# Altium integrated library Linear Technology Comparators.IntLib: 630 symbols (part 16 of 24)
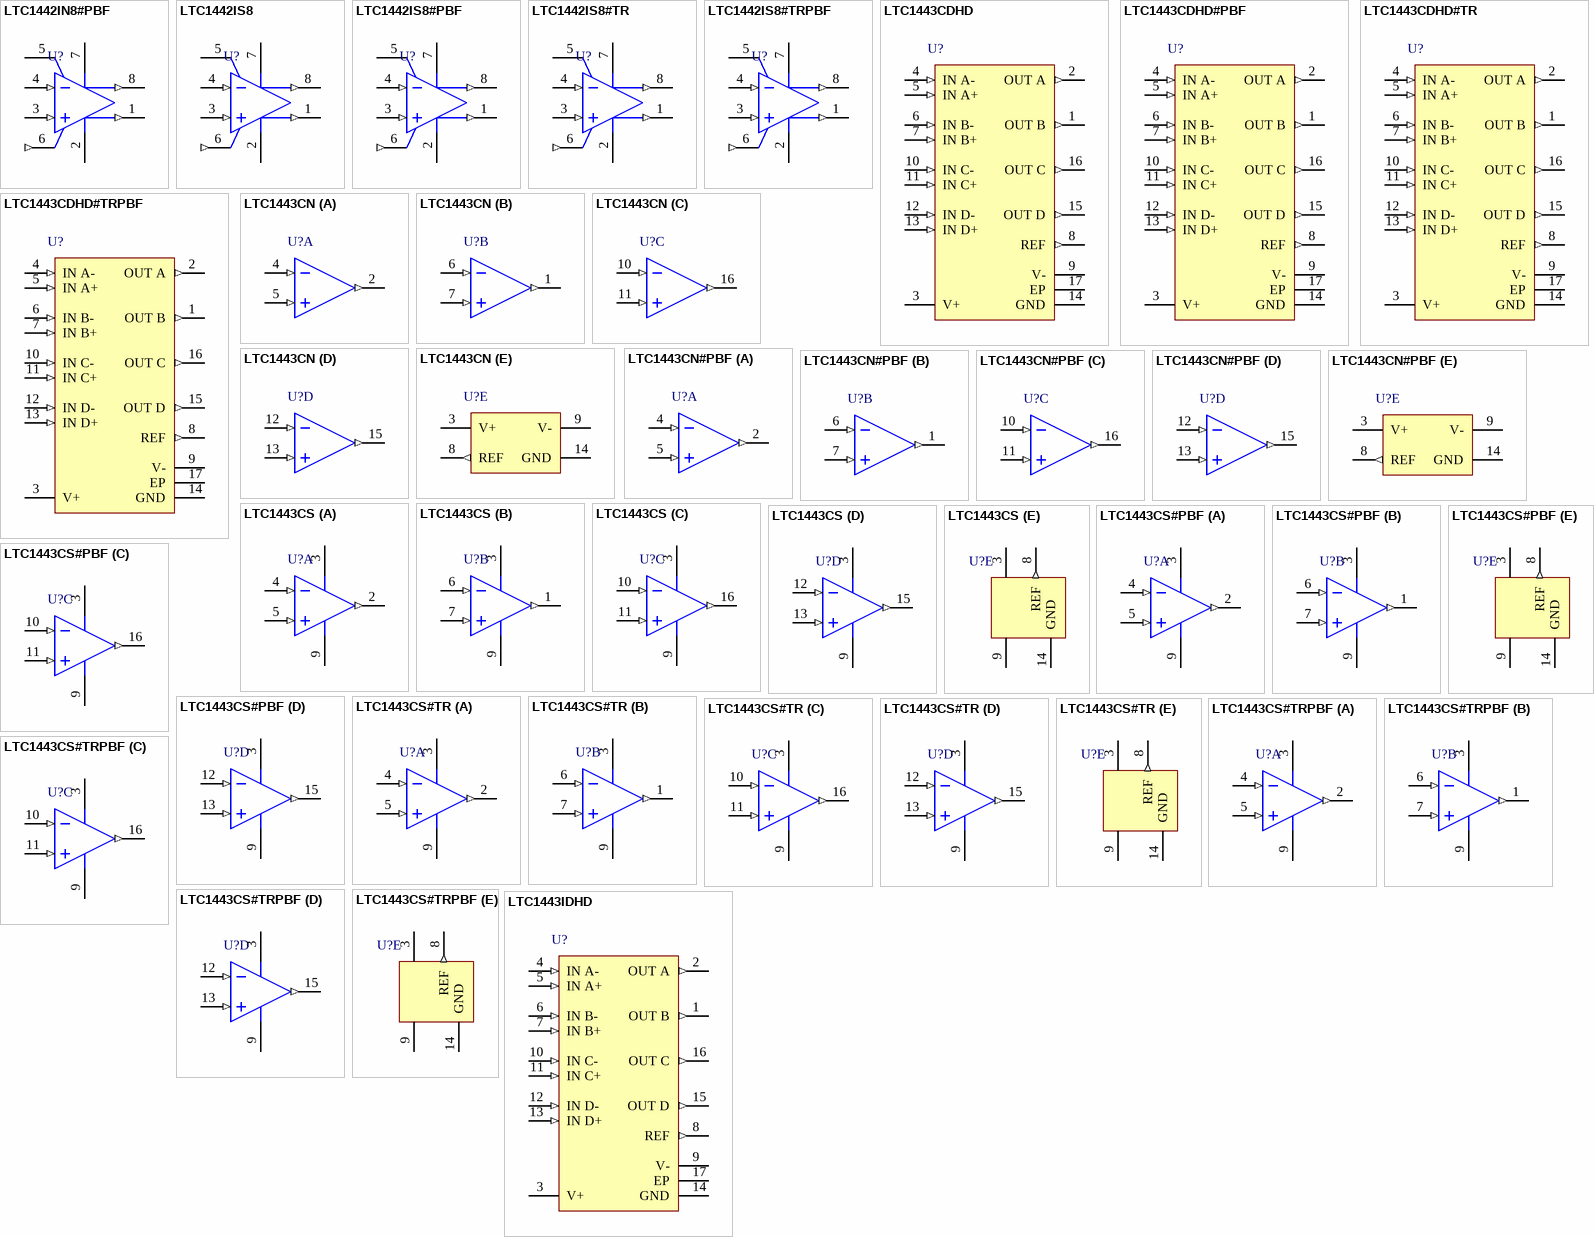
[diagram p39: symbols LTC1442IN8#PBF to LTC1443IDHD]

## LTC1443CS
designator U?
Ultralow Power Comparator with Reference, 4 Channels, 2 to 11 V, 0 to +70 degC, 16-pin SOP (S16); Generic Part Number: LTC1443; Manufacturer: Linear Technology; PartNumber: LTC1443CS; Channels (#): 4; Supply Current (uA) Guaranteed: 8.5; Supply Current (uA) Typical: 5.5; Supply Voltage Range: 2 to 11 V; Vos (mV) Typical: 3; Vs Max (V): 11; Vs Min (V): 2; DatasheetVersion: Rev E; PackageReference: S16; PackageDescription: 16-Pin Plastic Small Outline, Body 9.91 x 3.9 mm, Pitch 1.27 mm; Features: Reference, Comparator; Prop Delay (us): 4; RoHS: N; Mounting Technology: Surface Mount; ComponentLink1Description: Manufacturer URL; ComponentLink1URL: http://www.linear.com/; ComponentLink2Description: Datasheet; ComponentLink2URL: http://cds.linear.com/docs/en/datasheet/144345fe.pdf; ComponentLink3Description: Package Specification; ComponentLink3URL: http://cds.linear.com/docs/en/packaging/05081610_G_S14.pdf
footprint LT-S16_N (SOIC, 16-Leads, Body 9.9x3.9mm, Pitch 1.27mm, IPC Medium Density)
footprint LT-S16_L (SOIC, 16-Leads, Body 9.9x3.9mm, Pitch 1.27mm, IPC High Density)
footprint LT-S16_M (SOIC, 16-Leads, Body 9.9x3.9mm, Pitch 1.27mm, IPC Low Density)
pins on every part: 3 V+ (power) "Positive Supply.", 9 V- (power) "Negative Supply. Connect to ground for single supply operation on LTC1443."
part A pins: 2 OUT A (out) "Comparator A Output.Output can source up to 40mA and sink 5mA.", 4 IN A- (in) "Inverting Input of Comparator A. Input common mode range from V- to V+ -1.3V.Input current typically 10pA at 25degC", 5 IN A+ (in) "Noninverting Input of Comparator A. Input common mode range from V- to V+ -1.3V.Input current typically 1-pA at 25degC"
part B pins: 1 OUT B (out) "Comparator B Output. Output can source up to 40mA and sink 5mA.", 6 IN B- (in) "Inverting Input of Comparator B. Input common mode range from V- to V+ -1.3V.Input cueernt typically 10pA at 25degC", 7 IN B+ (in) "Noninverting Input of Comparator B. Input common mode range from V- to V+ -1.3V.Input current typically 10pA at 25degC"
part C pins: 10 IN C- (in) "Inverting Input of Comparator C. Input common mode range from V- to V+ -1.3V.Input current typically 10pA at25degC.", 11 IN C+ (in) "Noninverting Input of Comparator C. Input common mode range from V- to V+ -1.3V.Input current typically 10pA at 25degC.", 16 OUT C (out) "Comparator C Output.output can source up to 40mA and sink 5mA."
part D pins: 12 IN D- (in) "Inverting Input of Comparator D. Input common mode range from V- toV+ -1.3V.input current typically 10pA at 25degC.", 13 IN D+ (in) "Noninverting Input of Comparator D. Input common mode range from V- to V+ -1.3V.Input current typically 10pA at 25degC.", 15 OUT D (out) "Comparator D Output.Output can source up to 40mA and sink 5mA."
part E pins: 8 REF (out) "Reference Output. With respect to V-. Can source up to 200uA and sink 15uA at 25degC.Drive 0.01uF bypass capacitor without oscillation.", 14 GND (power) "LTC1443 Ground. Connect to V- for single supply operation."

## LTC1443CS#PBF
designator U?
Ultralow Power Comparator with Reference, 4 Channels, 2 to 11 V, 0 to +70 degC, 16-pin SOP (S16); Generic Part Number: LTC1443; Manufacturer: Linear Technology; PartNumber: LTC1443CS#PBF; Channels (#): 4; Supply Current (uA) Guaranteed: 8.5; Supply Current (uA) Typical: 5.5; Supply Voltage Range: 2 to 11 V; Vos (mV) Typical: 3; Vs Max (V): 11; Vs Min (V): 2; DatasheetVersion: Rev E; PackageReference: S16; PackageDescription: 16-Pin Plastic Small Outline, Body 9.91 x 3.9 mm, Pitch 1.27 mm; Supplier 1: Digi-Key; Supplier Part Number 1: LTC1443CS#PBF-ND; Supplier 2: Newark; Supplier Part Number 2: 56M1231; Features: Reference, Comparator; Prop Delay (us): 4; RoHS: Y; Mounting Technology: Surface Mount; ComponentLink1Description: Manufacturer URL; ComponentLink1URL: http://www.linear.com/; ComponentLink2Description: Datasheet; ComponentLink2URL: http://cds.linear.com/docs/en/datasheet/144345fe.pdf; ComponentLink3Description: Package Specification; ComponentLink3URL: http://cds.linear.com/docs/en/packaging/05081610_G_S14.pdf
footprint LT-S16_N (SOIC, 16-Leads, Body 9.9x3.9mm, Pitch 1.27mm, IPC Medium Density)
footprint LT-S16_L (SOIC, 16-Leads, Body 9.9x3.9mm, Pitch 1.27mm, IPC High Density)
footprint LT-S16_M (SOIC, 16-Leads, Body 9.9x3.9mm, Pitch 1.27mm, IPC Low Density)
pins on every part: 3 V+ (power) "Positive Supply.", 9 V- (power) "Negative Supply. Connect to ground for single supply operation on LTC1443."
part A pins: 2 OUT A (out) "Comparator A Output.Output can source up to 40mA and sink 5mA.", 4 IN A- (in) "Inverting Input of Comparator A. Input common mode range from V- to V+ -1.3V.Input current typically 10pA at 25degC", 5 IN A+ (in) "Noninverting Input of Comparator A. Input common mode range from V- to V+ -1.3V.Input current typically 1-pA at 25degC"
part B pins: 1 OUT B (out) "Comparator B Output. Output can source up to 40mA and sink 5mA.", 6 IN B- (in) "Inverting Input of Comparator B. Input common mode range from V- to V+ -1.3V.Input cueernt typically 10pA at 25degC", 7 IN B+ (in) "Noninverting Input of Comparator B. Input common mode range from V- to V+ -1.3V.Input current typically 10pA at 25degC"
part C pins: 10 IN C- (in) "Inverting Input of Comparator C. Input common mode range from V- to V+ -1.3V.Input current typically 10pA at25degC.", 11 IN C+ (in) "Noninverting Input of Comparator C. Input common mode range from V- to V+ -1.3V.Input current typically 10pA at 25degC.", 16 OUT C (out) "Comparator C Output.output can source up to 40mA and sink 5mA."
part D pins: 12 IN D- (in) "Inverting Input of Comparator D. Input common mode range from V- toV+ -1.3V.input current typically 10pA at 25degC.", 13 IN D+ (in) "Noninverting Input of Comparator D. Input common mode range from V- to V+ -1.3V.Input current typically 10pA at 25degC.", 15 OUT D (out) "Comparator D Output.Output can source up to 40mA and sink 5mA."
part E pins: 8 REF (out) "Reference Output. With respect to V-. Can source up to 200uA and sink 15uA at 25degC.Drive 0.01uF bypass capacitor without oscillation.", 14 GND (power) "LTC1443 Ground. Connect to V- for single supply operation."

## LTC1443CS#TR
designator U?
Ultralow Power Comparator with Reference, 4 Channels, 2 to 11 V, 0 to +70 degC, 16-pin SOP (S16), Tape and Reel; Generic Part Number: LTC1443; Manufacturer: Linear Technology; PartNumber: LTC1443CS#TR; Channels (#): 4; Supply Current (uA) Guaranteed: 8.5; Supply Current (uA) Typical: 5.5; Supply Voltage Range: 2 to 11 V; Vos (mV) Typical: 3; Vs Max (V): 11; Vs Min (V): 2; DatasheetVersion: Rev E; PackageReference: S16; PackageDescription: 16-Pin Plastic Small Outline, Body 9.91 x 3.9 mm, Pitch 1.27 mm; Supplier 1: Digi-Key; Supplier Part Number 1: LTC1443CS#TR-ND; Features: Reference, Comparator; Prop Delay (us): 4; RoHS: N; Mounting Technology: Surface Mount; ComponentLink1Description: Manufacturer URL; ComponentLink1URL: http://www.linear.com/; ComponentLink2Description: Datasheet; ComponentLink2URL: http://cds.linear.com/docs/en/datasheet/144345fe.pdf; ComponentLink3Description: Package Specification; ComponentLink3URL: http://cds.linear.com/docs/en/packaging/05081610_G_S14.pdf
footprint LT-S16_N (SOIC, 16-Leads, Body 9.9x3.9mm, Pitch 1.27mm, IPC Medium Density)
footprint LT-S16_L (SOIC, 16-Leads, Body 9.9x3.9mm, Pitch 1.27mm, IPC High Density)
footprint LT-S16_M (SOIC, 16-Leads, Body 9.9x3.9mm, Pitch 1.27mm, IPC Low Density)
pins on every part: 3 V+ (power) "Positive Supply.", 9 V- (power) "Negative Supply. Connect to ground for single supply operation on LTC1443."
part A pins: 2 OUT A (out) "Comparator A Output.Output can source up to 40mA and sink 5mA.", 4 IN A- (in) "Inverting Input of Comparator A. Input common mode range from V- to V+ -1.3V.Input current typically 10pA at 25degC", 5 IN A+ (in) "Noninverting Input of Comparator A. Input common mode range from V- to V+ -1.3V.Input current typically 1-pA at 25degC"
part B pins: 1 OUT B (out) "Comparator B Output. Output can source up to 40mA and sink 5mA.", 6 IN B- (in) "Inverting Input of Comparator B. Input common mode range from V- to V+ -1.3V.Input cueernt typically 10pA at 25degC", 7 IN B+ (in) "Noninverting Input of Comparator B. Input common mode range from V- to V+ -1.3V.Input current typically 10pA at 25degC"
part C pins: 10 IN C- (in) "Inverting Input of Comparator C. Input common mode range from V- to V+ -1.3V.Input current typically 10pA at25degC.", 11 IN C+ (in) "Noninverting Input of Comparator C. Input common mode range from V- to V+ -1.3V.Input current typically 10pA at 25degC.", 16 OUT C (out) "Comparator C Output.output can source up to 40mA and sink 5mA."
part D pins: 12 IN D- (in) "Inverting Input of Comparator D. Input common mode range from V- toV+ -1.3V.input current typically 10pA at 25degC.", 13 IN D+ (in) "Noninverting Input of Comparator D. Input common mode range from V- to V+ -1.3V.Input current typically 10pA at 25degC.", 15 OUT D (out) "Comparator D Output.Output can source up to 40mA and sink 5mA."
part E pins: 8 REF (out) "Reference Output. With respect to V-. Can source up to 200uA and sink 15uA at 25degC.Drive 0.01uF bypass capacitor without oscillation.", 14 GND (power) "LTC1443 Ground. Connect to V- for single supply operation."

## LTC1443CS#TRPBF
designator U?
Ultralow Power Comparator with Reference, 4 Channels, 2 to 11 V, 0 to +70 degC, 16-pin SOP (S16), Tape and Reel; Generic Part Number: LTC1443; Manufacturer: Linear Technology; PartNumber: LTC1443CS#TRPBF; Channels (#): 4; Supply Current (uA) Guaranteed: 8.5; Supply Current (uA) Typical: 5.5; Supply Voltage Range: 2 to 11 V; Vos (mV) Typical: 3; Vs Max (V): 11; Vs Min (V): 2; DatasheetVersion: Rev E; PackageReference: S16; PackageDescription: 16-Pin Plastic Small Outline, Body 9.91 x 3.9 mm, Pitch 1.27 mm; Supplier 1: Digi-Key; Supplier Part Number 1: LTC1443CS#TRPBF-ND; Features: Reference, Comparator; Prop Delay (us): 4; RoHS: Y; Mounting Technology: Surface Mount; ComponentLink1Description: Manufacturer URL; ComponentLink1URL: http://www.linear.com/; ComponentLink2Description: Datasheet; ComponentLink2URL: http://cds.linear.com/docs/en/datasheet/144345fe.pdf; ComponentLink3Description: Package Specification; ComponentLink3URL: http://cds.linear.com/docs/en/packaging/05081610_G_S14.pdf
footprint LT-S16_N (SOIC, 16-Leads, Body 9.9x3.9mm, Pitch 1.27mm, IPC Medium Density)
footprint LT-S16_L (SOIC, 16-Leads, Body 9.9x3.9mm, Pitch 1.27mm, IPC High Density)
footprint LT-S16_M (SOIC, 16-Leads, Body 9.9x3.9mm, Pitch 1.27mm, IPC Low Density)
pins on every part: 3 V+ (power) "Positive Supply.", 9 V- (power) "Negative Supply. Connect to ground for single supply operation on LTC1443."
part A pins: 2 OUT A (out) "Comparator A Output.Output can source up to 40mA and sink 5mA.", 4 IN A- (in) "Inverting Input of Comparator A. Input common mode range from V- to V+ -1.3V.Input current typically 10pA at 25degC", 5 IN A+ (in) "Noninverting Input of Comparator A. Input common mode range from V- to V+ -1.3V.Input current typically 1-pA at 25degC"
part B pins: 1 OUT B (out) "Comparator B Output. Output can source up to 40mA and sink 5mA.", 6 IN B- (in) "Inverting Input of Comparator B. Input common mode range from V- to V+ -1.3V.Input cueernt typically 10pA at 25degC", 7 IN B+ (in) "Noninverting Input of Comparator B. Input common mode range from V- to V+ -1.3V.Input current typically 10pA at 25degC"
part C pins: 10 IN C- (in) "Inverting Input of Comparator C. Input common mode range from V- to V+ -1.3V.Input current typically 10pA at25degC.", 11 IN C+ (in) "Noninverting Input of Comparator C. Input common mode range from V- to V+ -1.3V.Input current typically 10pA at 25degC.", 16 OUT C (out) "Comparator C Output.output can source up to 40mA and sink 5mA."
part D pins: 12 IN D- (in) "Inverting Input of Comparator D. Input common mode range from V- toV+ -1.3V.input current typically 10pA at 25degC.", 13 IN D+ (in) "Noninverting Input of Comparator D. Input common mode range from V- to V+ -1.3V.Input current typically 10pA at 25degC.", 15 OUT D (out) "Comparator D Output.Output can source up to 40mA and sink 5mA."
part E pins: 8 REF (out) "Reference Output. With respect to V-. Can source up to 200uA and sink 15uA at 25degC.Drive 0.01uF bypass capacitor without oscillation.", 14 GND (power) "LTC1443 Ground. Connect to V- for single supply operation."

## LTC1443IDHD
designator U?
Ultralow Power Comparator with Reference, 4 Channels, 2 to 11 V, -40 to +85 degC, 16-pin Plastic DFN (DHD16); Generic Part Number: LTC1443; Manufacturer: Linear Technology; PartNumber: LTC1443IDHD; Channels (#): 4; Supply Current (uA) Guaranteed: 8.5; Supply Current (uA) Typical: 5.5; Supply Voltage Range: 2 to 11 V; Vos (mV) Typical: 3; Vs Max (V): 11; Vs Min (V): 2; DatasheetVersion: Rev E; PackageReference: DHD16; PackageDescription: 16-Pin Plastic DFN, Body 5 × 4 mm, Pitch 0.5 mm; Features: Reference, Comparator; Prop Delay (us): 4; RoHS: N; Mounting Technology: Surface Mount; Code_JEDEC: MO-229; ComponentLink1Description: Manufacturer URL; ComponentLink1URL: http://www.linear.com/; ComponentLink2Description: Datasheet; ComponentLink2URL: http://cds.linear.com/docs/en/datasheet/144345fe.pdf; ComponentLink3Description: Package Specification; ComponentLink3URL: http://cds.linear.com/docs/en/packaging/DFN_16_05-08-1707.pdf
footprint LT-DHD16_V (SON, 16-Leads, Body 5x4mm, Pitch 0.5mm, Thermal Pad 4.34x2.44mm)
pins: 1 OUT B (out) "Comparator B Output. Output can source up to 40mA and sink 5mA.", 2 OUT A (out) "Comparator A Output. Output can source up to 40mA and sink 5mA.", 3 V+ (power) "Positive Supply.", 4 IN A- (in) "Inverting Input of Comparator A. Input common mode range from V- to V+ - 1.3V. Input current typically 10pA at 25degreesC.", 5 IN A+ (in) "Noninverting Input of Comparator A. Input common mode range from V- to V+ - 1.3V. Input current typically 10pA at 25degreesC.", 6 IN B- (in) "Inverting Input of Comparator B. Input common mode range from V- to V+ - 1.3V. Input current typically 10pA at 25degreesC.", 7 IN B+ (in) "Noninverting Input of Comparator B. Input common mode range from V- to V+ - 1.3V. Input current typically 10pA at 25degreesC.", 8 REF (out) "Reference Output. With respect to V-. Can source up to 200uA and sink 15uA at 25degreesC. Drive 0.01uF bypass capacitor without oscillation.", 9 V- (power) "Negative Supply. Connect to ground for single supply operation.", 10 IN C- (in) "Inverting Input of Comparator C. Input common mode range from V- to V+ - 1.3V. Input current typically 10pA at 25degreesC.", 11 IN C+ (in) "Noninverting Input of Comparator C. Input common mode range from V- to V+ - 1.3V. Input current typically 10pA at 25degreesC.", 12 IN D- (in) "Inverting Input of Comparator D. Input common mode range from V- to V+ - 1.3V. Input current typically 10pA at 25degreesC.", 13 IN D+ (in) "Noninverting Input of Comparator D. Input common mode range from V- to V+ - 1.3V. Input current typically 10pA at 25degreesC.", 14 GND (power) "Ground. Connect to V- for single supply operation.", 15 OUT D (out) "Comparator D Output. Output can source up to 40mA and sink 5mA.", 16 OUT C (out) "Comparator C Output. Output can source up to 40mA and sink 5mA.", 17 EP "This pin is internally connected to V-. Connection is optional, but will improve thermal dissipation."

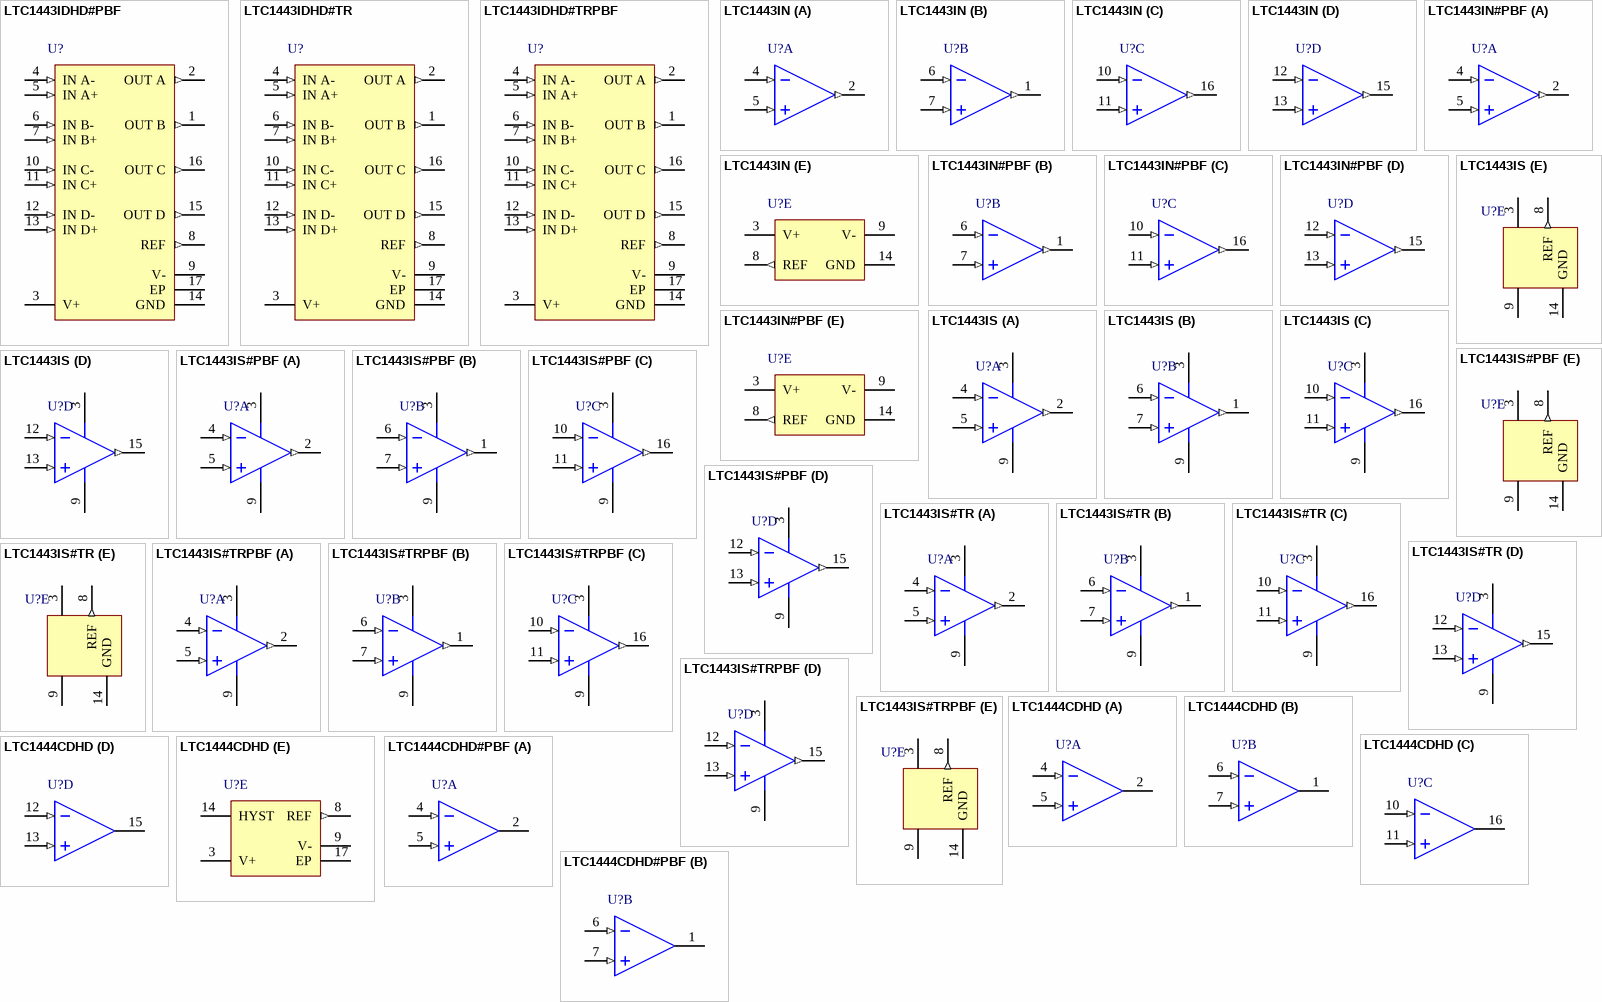
[diagram p15: symbols LTC1443IDHD#PBF to LTC1444CDHD#PBF]

## LTC1443IDHD#PBF
designator U?
Ultralow Power Comparator with Reference, 4 Channels, 2 to 11 V, -40 to +85 degC, 16-pin Plastic DFN (DHD16); Generic Part Number: LTC1443; Manufacturer: Linear Technology; PartNumber: LTC1443IDHD#PBF; Channels (#): 4; Supply Current (uA) Guaranteed: 8.5; Supply Current (uA) Typical: 5.5; Supply Voltage Range: 2 to 11 V; Vos (mV) Typical: 3; Vs Max (V): 11; Vs Min (V): 2; DatasheetVersion: Rev E; PackageReference: DHD16; PackageDescription: 16-Pin Plastic DFN, Body 5 × 4 mm, Pitch 0.5 mm; Supplier 1: Digi-Key; Supplier Part Number 1: LTC1443IDHD#PBF-ND; Features: Reference, Comparator; Prop Delay (us): 4; RoHS: Y; Mounting Technology: Surface Mount; Code_JEDEC: MO-229; ComponentLink1Description: Manufacturer URL; ComponentLink1URL: http://www.linear.com/; ComponentLink2Description: Datasheet; ComponentLink2URL: http://cds.linear.com/docs/en/datasheet/144345fe.pdf; ComponentLink3Description: Package Specification; ComponentLink3URL: http://cds.linear.com/docs/en/packaging/DFN_16_05-08-1707.pdf
footprint LT-DHD16_V (SON, 16-Leads, Body 5x4mm, Pitch 0.5mm, Thermal Pad 4.34x2.44mm)
pins: 1 OUT B (out) "Comparator B Output. Output can source up to 40mA and sink 5mA.", 2 OUT A (out) "Comparator A Output. Output can source up to 40mA and sink 5mA.", 3 V+ (power) "Positive Supply.", 4 IN A- (in) "Inverting Input of Comparator A. Input common mode range from V- to V+ - 1.3V. Input current typically 10pA at 25degreesC.", 5 IN A+ (in) "Noninverting Input of Comparator A. Input common mode range from V- to V+ - 1.3V. Input current typically 10pA at 25degreesC.", 6 IN B- (in) "Inverting Input of Comparator B. Input common mode range from V- to V+ - 1.3V. Input current typically 10pA at 25degreesC.", 7 IN B+ (in) "Noninverting Input of Comparator B. Input common mode range from V- to V+ - 1.3V. Input current typically 10pA at 25degreesC.", 8 REF (out) "Reference Output. With respect to V-. Can source up to 200uA and sink 15uA at 25degreesC. Drive 0.01uF bypass capacitor without oscillation.", 9 V- (power) "Negative Supply. Connect to ground for single supply operation.", 10 IN C- (in) "Inverting Input of Comparator C. Input common mode range from V- to V+ - 1.3V. Input current typically 10pA at 25degreesC.", 11 IN C+ (in) "Noninverting Input of Comparator C. Input common mode range from V- to V+ - 1.3V. Input current typically 10pA at 25degreesC.", 12 IN D- (in) "Inverting Input of Comparator D. Input common mode range from V- to V+ - 1.3V. Input current typically 10pA at 25degreesC.", 13 IN D+ (in) "Noninverting Input of Comparator D. Input common mode range from V- to V+ - 1.3V. Input current typically 10pA at 25degreesC.", 14 GND (power) "Ground. Connect to V- for single supply operation.", 15 OUT D (out) "Comparator D Output. Output can source up to 40mA and sink 5mA.", 16 OUT C (out) "Comparator C Output. Output can source up to 40mA and sink 5mA.", 17 EP "This pin is internally connected to V-. Connection is optional, but will improve thermal dissipation."

## LTC1443IDHD#TR
designator U?
Ultralow Power Comparator with Reference, 4 Channels, 2 to 11 V, -40 to +85 degC, 16-pin Plastic DFN (DHD16), Tape and Reel; Generic Part Number: LTC1443; Manufacturer: Linear Technology; PartNumber: LTC1443IDHD#TR; Channels (#): 4; Supply Current (uA) Guaranteed: 8.5; Supply Current (uA) Typical: 5.5; Supply Voltage Range: 2 to 11 V; Vos (mV) Typical: 3; Vs Max (V): 11; Vs Min (V): 2; DatasheetVersion: Rev E; PackageReference: DHD16; PackageDescription: 16-Pin Plastic DFN, Body 5 × 4 mm, Pitch 0.5 mm; Features: Reference, Comparator; Prop Delay (us): 4; RoHS: N; Mounting Technology: Surface Mount; Code_JEDEC: MO-229; ComponentLink1Description: Manufacturer URL; ComponentLink1URL: http://www.linear.com/; ComponentLink2Description: Datasheet; ComponentLink2URL: http://cds.linear.com/docs/en/datasheet/144345fe.pdf; ComponentLink3Description: Package Specification; ComponentLink3URL: http://cds.linear.com/docs/en/packaging/DFN_16_05-08-1707.pdf
footprint LT-DHD16_V (SON, 16-Leads, Body 5x4mm, Pitch 0.5mm, Thermal Pad 4.34x2.44mm)
pins: 1 OUT B (out) "Comparator B Output. Output can source up to 40mA and sink 5mA.", 2 OUT A (out) "Comparator A Output. Output can source up to 40mA and sink 5mA.", 3 V+ (power) "Positive Supply.", 4 IN A- (in) "Inverting Input of Comparator A. Input common mode range from V- to V+ - 1.3V. Input current typically 10pA at 25degreesC.", 5 IN A+ (in) "Noninverting Input of Comparator A. Input common mode range from V- to V+ - 1.3V. Input current typically 10pA at 25degreesC.", 6 IN B- (in) "Inverting Input of Comparator B. Input common mode range from V- to V+ - 1.3V. Input current typically 10pA at 25degreesC.", 7 IN B+ (in) "Noninverting Input of Comparator B. Input common mode range from V- to V+ - 1.3V. Input current typically 10pA at 25degreesC.", 8 REF (out) "Reference Output. With respect to V-. Can source up to 200uA and sink 15uA at 25degreesC. Drive 0.01uF bypass capacitor without oscillation.", 9 V- (power) "Negative Supply. Connect to ground for single supply operation.", 10 IN C- (in) "Inverting Input of Comparator C. Input common mode range from V- to V+ - 1.3V. Input current typically 10pA at 25degreesC.", 11 IN C+ (in) "Noninverting Input of Comparator C. Input common mode range from V- to V+ - 1.3V. Input current typically 10pA at 25degreesC.", 12 IN D- (in) "Inverting Input of Comparator D. Input common mode range from V- to V+ - 1.3V. Input current typically 10pA at 25degreesC.", 13 IN D+ (in) "Noninverting Input of Comparator D. Input common mode range from V- to V+ - 1.3V. Input current typically 10pA at 25degreesC.", 14 GND (power) "Ground. Connect to V- for single supply operation.", 15 OUT D (out) "Comparator D Output. Output can source up to 40mA and sink 5mA.", 16 OUT C (out) "Comparator C Output. Output can source up to 40mA and sink 5mA.", 17 EP "This pin is internally connected to V-. Connection is optional, but will improve thermal dissipation."

## LTC1443IDHD#TRPBF
designator U?
Ultralow Power Comparator with Reference, 4 Channels, 2 to 11 V, -40 to +85 degC, 16-pin Plastic DFN (DHD16), Tape and Reel; Generic Part Number: LTC1443; Manufacturer: Linear Technology; PartNumber: LTC1443IDHD#TRPBF; Channels (#): 4; Supply Current (uA) Guaranteed: 8.5; Supply Current (uA) Typical: 5.5; Supply Voltage Range: 2 to 11 V; Vos (mV) Typical: 3; Vs Max (V): 11; Vs Min (V): 2; DatasheetVersion: Rev E; PackageReference: DHD16; PackageDescription: 16-Pin Plastic DFN, Body 5 × 4 mm, Pitch 0.5 mm; Supplier 1: Digi-Key; Supplier Part Number 1: LTC1443IDHD#TRPBF-ND; Features: Reference, Comparator; Prop Delay (us): 4; RoHS: Y; Mounting Technology: Surface Mount; Code_JEDEC: MO-229; ComponentLink1Description: Manufacturer URL; ComponentLink1URL: http://www.linear.com/; ComponentLink2Description: Datasheet; ComponentLink2URL: http://cds.linear.com/docs/en/datasheet/144345fe.pdf; ComponentLink3Description: Package Specification; ComponentLink3URL: http://cds.linear.com/docs/en/packaging/DFN_16_05-08-1707.pdf
footprint LT-DHD16_V (SON, 16-Leads, Body 5x4mm, Pitch 0.5mm, Thermal Pad 4.34x2.44mm)
pins: 1 OUT B (out) "Comparator B Output. Output can source up to 40mA and sink 5mA.", 2 OUT A (out) "Comparator A Output. Output can source up to 40mA and sink 5mA.", 3 V+ (power) "Positive Supply.", 4 IN A- (in) "Inverting Input of Comparator A. Input common mode range from V- to V+ - 1.3V. Input current typically 10pA at 25degreesC.", 5 IN A+ (in) "Noninverting Input of Comparator A. Input common mode range from V- to V+ - 1.3V. Input current typically 10pA at 25degreesC.", 6 IN B- (in) "Inverting Input of Comparator B. Input common mode range from V- to V+ - 1.3V. Input current typically 10pA at 25degreesC.", 7 IN B+ (in) "Noninverting Input of Comparator B. Input common mode range from V- to V+ - 1.3V. Input current typically 10pA at 25degreesC.", 8 REF (out) "Reference Output. With respect to V-. Can source up to 200uA and sink 15uA at 25degreesC. Drive 0.01uF bypass capacitor without oscillation.", 9 V- (power) "Negative Supply. Connect to ground for single supply operation.", 10 IN C- (in) "Inverting Input of Comparator C. Input common mode range from V- to V+ - 1.3V. Input current typically 10pA at 25degreesC.", 11 IN C+ (in) "Noninverting Input of Comparator C. Input common mode range from V- to V+ - 1.3V. Input current typically 10pA at 25degreesC.", 12 IN D- (in) "Inverting Input of Comparator D. Input common mode range from V- to V+ - 1.3V. Input current typically 10pA at 25degreesC.", 13 IN D+ (in) "Noninverting Input of Comparator D. Input common mode range from V- to V+ - 1.3V. Input current typically 10pA at 25degreesC.", 14 GND (power) "Ground. Connect to V- for single supply operation.", 15 OUT D (out) "Comparator D Output. Output can source up to 40mA and sink 5mA.", 16 OUT C (out) "Comparator C Output. Output can source up to 40mA and sink 5mA.", 17 EP "This pin is internally connected to V-. Connection is optional, but will improve thermal dissipation."

## LTC1443IN
designator U?
Ultralow Power Comparator with Reference, 4 Channels, 2 to 11 V, -40 to 85 degC, 16-pin PDIP (N16); Generic Part Number: LTC1443; Manufacturer: Linear Technology; PartNumber: LTC1443IN; Channels (#): 4; Supply Current (uA) Guaranteed: 8.5; Supply Current (uA) Typical: 5.5; Supply Voltage Range: 2 to 11 V; Vos (mV) Typical: 3; Vs Max (V): 11; Vs Min (V): 2; DatasheetVersion: Rev E; PackageReference: N16; PackageDescription: 16-Pin PDIP, Body 19.305 x 6.35 mm, Pitch 2.54 mm; Features: Reference, Comparator; Prop Delay (us): 4; RoHS: N; Mounting Technology: Through Hole; ComponentLink1Description: Manufacturer URL; ComponentLink1URL: http://www.linear.com/; ComponentLink2Description: Datasheet; ComponentLink2URL: http://cds.linear.com/docs/en/datasheet/144345fe.pdf; ComponentLink3Description: Package Specification; ComponentLink3URL: http://cds.linear.com/docs/en/packaging/05081510_I_N16.pdf
footprint LT-N16 (DIP, 16-Leads, Body 19.558x6.477mm, Pitch 2.54mm)
part A pins: 2 OUT A (out) "Comparator A Output. Output can source up to 40mA and sink 5mA.", 4 IN A- (in) "Inverting Input of Comparator A. Input common mode range from V- to V+ - 1.3V. Input current typically 10pA at 25degreesC.", 5 IN A+ (in) "Noninverting Input of Comparator A. Input common mode range from V- to V+ - 1.3V. Input current typically 10pA at 25degreesC."
part B pins: 1 OUT B (out) "Comparator B Output. Output can source up to 40mA and sink 5mA.", 6 IN B- (in) "Inverting Input of Comparator B. Input common mode range from V- to V+ - 1.3V. Input current typically 10pA at 25degreesC.", 7 IN B+ (in) "Noninverting Input of Comparator B. Input common mode range from V- to V+ - 1.3V. Input current typically 10pA at 25degreesC."
part C pins: 10 IN C- (in) "Inverting Input of Comparator C. Input common mode range from V- to V+ - 1.3V. Input current typically 10pA at 25degreesC.", 11 IN C+ (in) "Noninverting Input of Comparator C. Input common mode range from V- to V+ - 1.3V. Input current typically 10pA at 25degreesC.", 16 OUT C (out) "Comparator C Output. Output can source up to 40mA and sink 5mA."
part D pins: 12 IN D- (in) "Inverting Input of Comparator D. Input common mode range from V- to V+ - 1.3V. Input current typically 10pA at 25degreesC.", 13 IN D+ (in) "Noninverting Input of Comparator D. Input common mode range from V- to V+ - 1.3V. Input current typically 10pA at 25degreesC.", 15 OUT D (out) "Comparator D Output. Output can source up to 40mA and sink 5mA."
part E pins: 3 V+ (power) "Positive Supply.", 8 REF (out) "Reference Output. With respect to V-. Can source up to 200uA and sink 15uA at 25degreesC. Drive 0.01uF bypass capacitor without oscillation.", 9 V- (power) "Negative Supply. Connect to ground for single supply operation on LTC1443.", 14 GND (power) "LTC1443 Ground. Connect to V- for single supply operation."

## LTC1443IN#PBF
designator U?
Ultralow Power Comparator with Reference, 4 Channels, 2 to 11 V, -40 to +85 degC, 16-pin PDIP (N16); Generic Part Number: LTC1443; Manufacturer: Linear Technology; PartNumber: LTC1443IN#PBF; Channels (#): 4; Supply Current (uA) Guaranteed: 8.5; Supply Current (uA) Typical: 5.5; Supply Voltage Range: 2 to 11 V; Vos (mV) Typical: 3; Vs Max (V): 11; Vs Min (V): 2; DatasheetVersion: Rev E; PackageReference: N16; PackageDescription: 16-Pin PDIP, Body 19.305 x 6.35 mm, Pitch 2.54 mm; Supplier 1: Digi-Key; Supplier Part Number 1: LTC1443IN#PBF-ND; Features: Reference, Comparator; Prop Delay (us): 4; RoHS: Y; Mounting Technology: Through Hole; ComponentLink1Description: Manufacturer URL; ComponentLink1URL: http://www.linear.com/; ComponentLink2Description: Datasheet; ComponentLink2URL: http://cds.linear.com/docs/en/datasheet/144345fe.pdf; ComponentLink3Description: Package Specification; ComponentLink3URL: http://cds.linear.com/docs/en/packaging/05081510_I_N16.pdf
footprint LT-N16 (DIP, 16-Leads, Body 19.558x6.477mm, Pitch 2.54mm)
part A pins: 2 OUT A (out) "Comparator A Output. Output can source up to 40mA and sink 5mA.", 4 IN A- (in) "Inverting Input of Comparator A. Input common mode range from V- to V+ - 1.3V. Input current typically 10pA at 25degreesC.", 5 IN A+ (in) "Noninverting Input of Comparator A. Input common mode range from V- to V+ - 1.3V. Input current typically 10pA at 25degreesC."
part B pins: 1 OUT B (out) "Comparator B Output. Output can source up to 40mA and sink 5mA.", 6 IN B- (in) "Inverting Input of Comparator B. Input common mode range from V- to V+ - 1.3V. Input current typically 10pA at 25degreesC.", 7 IN B+ (in) "Noninverting Input of Comparator B. Input common mode range from V- to V+ - 1.3V. Input current typically 10pA at 25degreesC."
part C pins: 10 IN C- (in) "Inverting Input of Comparator C. Input common mode range from V- to V+ - 1.3V. Input current typically 10pA at 25degreesC.", 11 IN C+ (in) "Noninverting Input of Comparator C. Input common mode range from V- to V+ - 1.3V. Input current typically 10pA at 25degreesC.", 16 OUT C (out) "Comparator C Output. Output can source up to 40mA and sink 5mA."
part D pins: 12 IN D- (in) "Inverting Input of Comparator D. Input common mode range from V- to V+ - 1.3V. Input current typically 10pA at 25degreesC.", 13 IN D+ (in) "Noninverting Input of Comparator D. Input common mode range from V- to V+ - 1.3V. Input current typically 10pA at 25degreesC.", 15 OUT D (out) "Comparator D Output. Output can source up to 40mA and sink 5mA."
part E pins: 3 V+ (power) "Positive Supply.", 8 REF (out) "Reference Output. With respect to V-. Can source up to 200uA and sink 15uA at 25degreesC. Drive 0.01uF bypass capacitor without oscillation.", 9 V- (power) "Negative Supply. Connect to ground for single supply operation on LTC1443.", 14 GND (power) "LTC1443 Ground. Connect to V- for single supply operation."

## LTC1443IS
designator U?
Ultralow Power Comparator with Reference, 4 Channels, 2 to 11 V, -40 to 85 degC, 16-pin SOP (S16); Generic Part Number: LTC1443; Manufacturer: Linear Technology; PartNumber: LTC1443IS; Channels (#): 4; Supply Current (uA) Guaranteed: 8.5; Supply Current (uA) Typical: 5.5; Supply Voltage Range: 2 to 11 V; Vos (mV) Typical: 3; Vs Max (V): 11; Vs Min (V): 2; DatasheetVersion: Rev E; PackageReference: S16; PackageDescription: 16-Pin Plastic Small Outline, Body 9.91 x 3.9 mm, Pitch 1.27 mm; Supplier 1: Digi-Key; Supplier Part Number 1: LTC1443IS-ND; Supplier 2: Newark; Supplier Part Number 2: 56M1237; Features: Reference, Comparator; Prop Delay (us): 4; RoHS: N; Mounting Technology: Surface Mount; ComponentLink1Description: Manufacturer URL; ComponentLink1URL: http://www.linear.com/; ComponentLink2Description: Datasheet; ComponentLink2URL: http://cds.linear.com/docs/en/datasheet/144345fe.pdf; ComponentLink3Description: Package Specification; ComponentLink3URL: http://cds.linear.com/docs/en/packaging/05081610_G_S14.pdf
footprint LT-S16_N (SOIC, 16-Leads, Body 9.9x3.9mm, Pitch 1.27mm, IPC Medium Density)
footprint LT-S16_L (SOIC, 16-Leads, Body 9.9x3.9mm, Pitch 1.27mm, IPC High Density)
footprint LT-S16_M (SOIC, 16-Leads, Body 9.9x3.9mm, Pitch 1.27mm, IPC Low Density)
pins on every part: 3 V+ (power) "Positive Supply.", 9 V- (power) "Negative Supply. Connect to ground for single supply operation on LTC1443."
part A pins: 2 OUT A (out) "Comparator A Output.Output can source up to 40mA and sink 5mA.", 4 IN A- (in) "Inverting Input of Comparator A. Input common mode range from V- to V+ -1.3V.Input current typically 10pA at 25degC", 5 IN A+ (in) "Noninverting Input of Comparator A. Input common mode range from V- to V+ -1.3V.Input current typically 1-pA at 25degC"
part B pins: 1 OUT B (out) "Comparator B Output. Output can source up to 40mA and sink 5mA.", 6 IN B- (in) "Inverting Input of Comparator B. Input common mode range from V- to V+ -1.3V.Input cueernt typically 10pA at 25degC", 7 IN B+ (in) "Noninverting Input of Comparator B. Input common mode range from V- to V+ -1.3V.Input current typically 10pA at 25degC"
part C pins: 10 IN C- (in) "Inverting Input of Comparator C. Input common mode range from V- to V+ -1.3V.Input current typically 10pA at25degC.", 11 IN C+ (in) "Noninverting Input of Comparator C. Input common mode range from V- to V+ -1.3V.Input current typically 10pA at 25degC.", 16 OUT C (out) "Comparator C Output.output can source up to 40mA and sink 5mA."
part D pins: 12 IN D- (in) "Inverting Input of Comparator D. Input common mode range from V- toV+ -1.3V.input current typically 10pA at 25degC.", 13 IN D+ (in) "Noninverting Input of Comparator D. Input common mode range from V- to V+ -1.3V.Input current typically 10pA at 25degC.", 15 OUT D (out) "Comparator D Output.Output can source up to 40mA and sink 5mA."
part E pins: 8 REF (out) "Reference Output. With respect to V-. Can source up to 200uA and sink 15uA at 25degC.Drive 0.01uF bypass capacitor without oscillation.", 14 GND (power) "LTC1443 Ground. Connect to V- for single supply operation."

## LTC1443IS#PBF
designator U?
Ultralow Power Comparator with Reference, 4 Channels, 2 to 11 V, -40 to +85 degC, 16-pin SOP (S16); Generic Part Number: LTC1443; Manufacturer: Linear Technology; PartNumber: LTC1443IS#PBF; Channels (#): 4; Supply Current (uA) Guaranteed: 8.5; Supply Current (uA) Typical: 5.5; Supply Voltage Range: 2 to 11 V; Vos (mV) Typical: 3; Vs Max (V): 11; Vs Min (V): 2; DatasheetVersion: Rev E; PackageReference: S16; PackageDescription: 16-Pin Plastic Small Outline, Body 9.91 x 3.9 mm, Pitch 1.27 mm; Supplier 1: Digi-Key; Supplier Part Number 1: LTC1443IS#PBF-ND; Supplier 2: Farnell; Supplier Part Number 2: 2294788; Supplier 3: Newark; Supplier Part Number 3: 56M1238; Features: Reference, Comparator; Prop Delay (us): 4; RoHS: Y; Mounting Technology: Surface Mount; ComponentLink1Description: Manufacturer URL; ComponentLink1URL: http://www.linear.com/; ComponentLink2Description: Datasheet; ComponentLink2URL: http://cds.linear.com/docs/en/datasheet/144345fe.pdf; ComponentLink3Description: Package Specification; ComponentLink3URL: http://cds.linear.com/docs/en/packaging/05081610_G_S14.pdf
footprint LT-S16_N (SOIC, 16-Leads, Body 9.9x3.9mm, Pitch 1.27mm, IPC Medium Density)
footprint LT-S16_L (SOIC, 16-Leads, Body 9.9x3.9mm, Pitch 1.27mm, IPC High Density)
footprint LT-S16_M (SOIC, 16-Leads, Body 9.9x3.9mm, Pitch 1.27mm, IPC Low Density)
pins on every part: 3 V+ (power) "Positive Supply.", 9 V- (power) "Negative Supply. Connect to ground for single supply operation on LTC1443."
part A pins: 2 OUT A (out) "Comparator A Output.Output can source up to 40mA and sink 5mA.", 4 IN A- (in) "Inverting Input of Comparator A. Input common mode range from V- to V+ -1.3V.Input current typically 10pA at 25degC", 5 IN A+ (in) "Noninverting Input of Comparator A. Input common mode range from V- to V+ -1.3V.Input current typically 1-pA at 25degC"
part B pins: 1 OUT B (out) "Comparator B Output. Output can source up to 40mA and sink 5mA.", 6 IN B- (in) "Inverting Input of Comparator B. Input common mode range from V- to V+ -1.3V.Input cueernt typically 10pA at 25degC", 7 IN B+ (in) "Noninverting Input of Comparator B. Input common mode range from V- to V+ -1.3V.Input current typically 10pA at 25degC"
part C pins: 10 IN C- (in) "Inverting Input of Comparator C. Input common mode range from V- to V+ -1.3V.Input current typically 10pA at25degC.", 11 IN C+ (in) "Noninverting Input of Comparator C. Input common mode range from V- to V+ -1.3V.Input current typically 10pA at 25degC.", 16 OUT C (out) "Comparator C Output.output can source up to 40mA and sink 5mA."
part D pins: 12 IN D- (in) "Inverting Input of Comparator D. Input common mode range from V- toV+ -1.3V.input current typically 10pA at 25degC.", 13 IN D+ (in) "Noninverting Input of Comparator D. Input common mode range from V- to V+ -1.3V.Input current typically 10pA at 25degC.", 15 OUT D (out) "Comparator D Output.Output can source up to 40mA and sink 5mA."
part E pins: 8 REF (out) "Reference Output. With respect to V-. Can source up to 200uA and sink 15uA at 25degC.Drive 0.01uF bypass capacitor without oscillation.", 14 GND (power) "LTC1443 Ground. Connect to V- for single supply operation."

## LTC1443IS#TR
designator U?
Ultralow Power Comparator with Reference, 4 Channels, 2 to 11 V, -40 to +85 degC, 16-pin SOP (S16), Tape and Reel; Generic Part Number: LTC1443; Manufacturer: Linear Technology; PartNumber: LTC1443IS#TR; Channels (#): 4; Supply Current (uA) Guaranteed: 8.5; Supply Current (uA) Typical: 5.5; Supply Voltage Range: 2 to 11 V; Vos (mV) Typical: 3; Vs Max (V): 11; Vs Min (V): 2; DatasheetVersion: Rev E; PackageReference: S16; PackageDescription: 16-Pin Plastic Small Outline, Body 9.91 x 3.9 mm, Pitch 1.27 mm; Supplier 1: Digi-Key; Supplier Part Number 1: LTC1443IS#TR-ND; Features: Reference, Comparator; Prop Delay (us): 4; RoHS: N; Mounting Technology: Surface Mount; ComponentLink1Description: Manufacturer URL; ComponentLink1URL: http://www.linear.com/; ComponentLink2Description: Datasheet; ComponentLink2URL: http://cds.linear.com/docs/en/datasheet/144345fe.pdf; ComponentLink3Description: Package Specification; ComponentLink3URL: http://cds.linear.com/docs/en/packaging/05081610_G_S14.pdf
footprint LT-S16_N (SOIC, 16-Leads, Body 9.9x3.9mm, Pitch 1.27mm, IPC Medium Density)
footprint LT-S16_L (SOIC, 16-Leads, Body 9.9x3.9mm, Pitch 1.27mm, IPC High Density)
footprint LT-S16_M (SOIC, 16-Leads, Body 9.9x3.9mm, Pitch 1.27mm, IPC Low Density)
pins on every part: 3 V+ (power) "Positive Supply.", 9 V- (power) "Negative Supply. Connect to ground for single supply operation on LTC1443."
part A pins: 2 OUT A (out) "Comparator A Output.Output can source up to 40mA and sink 5mA.", 4 IN A- (in) "Inverting Input of Comparator A. Input common mode range from V- to V+ -1.3V.Input current typically 10pA at 25degC", 5 IN A+ (in) "Noninverting Input of Comparator A. Input common mode range from V- to V+ -1.3V.Input current typically 1-pA at 25degC"
part B pins: 1 OUT B (out) "Comparator B Output. Output can source up to 40mA and sink 5mA.", 6 IN B- (in) "Inverting Input of Comparator B. Input common mode range from V- to V+ -1.3V.Input cueernt typically 10pA at 25degC", 7 IN B+ (in) "Noninverting Input of Comparator B. Input common mode range from V- to V+ -1.3V.Input current typically 10pA at 25degC"
part C pins: 10 IN C- (in) "Inverting Input of Comparator C. Input common mode range from V- to V+ -1.3V.Input current typically 10pA at25degC.", 11 IN C+ (in) "Noninverting Input of Comparator C. Input common mode range from V- to V+ -1.3V.Input current typically 10pA at 25degC.", 16 OUT C (out) "Comparator C Output.output can source up to 40mA and sink 5mA."
part D pins: 12 IN D- (in) "Inverting Input of Comparator D. Input common mode range from V- toV+ -1.3V.input current typically 10pA at 25degC.", 13 IN D+ (in) "Noninverting Input of Comparator D. Input common mode range from V- to V+ -1.3V.Input current typically 10pA at 25degC.", 15 OUT D (out) "Comparator D Output.Output can source up to 40mA and sink 5mA."
part E pins: 8 REF (out) "Reference Output. With respect to V-. Can source up to 200uA and sink 15uA at 25degC.Drive 0.01uF bypass capacitor without oscillation.", 14 GND (power) "LTC1443 Ground. Connect to V- for single supply operation."

## LTC1443IS#TRPBF
designator U?
Ultralow Power Comparator with Reference, 4 Channels, 2 to 11 V, -40 to 85 degC, 16-pin SOP (S16), Tape and Reel; Generic Part Number: LTC1443; Manufacturer: Linear Technology; PartNumber: LTC1443IS#TRPBF; Channels (#): 4; Supply Current (uA) Guaranteed: 8.5; Supply Current (uA) Typical: 5.5; Supply Voltage Range: 2 to 11 V; Vos (mV) Typical: 3; Vs Max (V): 11; Vs Min (V): 2; DatasheetVersion: Rev E; PackageReference: S16; PackageDescription: 16-Pin Plastic Small Outline, Body 9.91 x 3.9 mm, Pitch 1.27 mm; Supplier 1: Digi-Key; Supplier Part Number 1: LTC1443IS#TRPBF-ND; Features: Reference, Comparator; Prop Delay (us): 4; RoHS: Y; Mounting Technology: Surface Mount; ComponentLink1Description: Manufacturer URL; ComponentLink1URL: http://www.linear.com/; ComponentLink2Description: Datasheet; ComponentLink2URL: http://cds.linear.com/docs/en/datasheet/144345fe.pdf; ComponentLink3Description: Package Specification; ComponentLink3URL: http://cds.linear.com/docs/en/packaging/05081610_G_S14.pdf
footprint LT-S16_N (SOIC, 16-Leads, Body 9.9x3.9mm, Pitch 1.27mm, IPC Medium Density)
footprint LT-S16_L (SOIC, 16-Leads, Body 9.9x3.9mm, Pitch 1.27mm, IPC High Density)
footprint LT-S16_M (SOIC, 16-Leads, Body 9.9x3.9mm, Pitch 1.27mm, IPC Low Density)
pins on every part: 3 V+ (power) "Positive Supply.", 9 V- (power) "Negative Supply. Connect to ground for single supply operation on LTC1443."
part A pins: 2 OUT A (out) "Comparator A Output.Output can source up to 40mA and sink 5mA.", 4 IN A- (in) "Inverting Input of Comparator A. Input common mode range from V- to V+ -1.3V.Input current typically 10pA at 25degC", 5 IN A+ (in) "Noninverting Input of Comparator A. Input common mode range from V- to V+ -1.3V.Input current typically 1-pA at 25degC"
part B pins: 1 OUT B (out) "Comparator B Output. Output can source up to 40mA and sink 5mA.", 6 IN B- (in) "Inverting Input of Comparator B. Input common mode range from V- to V+ -1.3V.Input cueernt typically 10pA at 25degC", 7 IN B+ (in) "Noninverting Input of Comparator B. Input common mode range from V- to V+ -1.3V.Input current typically 10pA at 25degC"
part C pins: 10 IN C- (in) "Inverting Input of Comparator C. Input common mode range from V- to V+ -1.3V.Input current typically 10pA at25degC.", 11 IN C+ (in) "Noninverting Input of Comparator C. Input common mode range from V- to V+ -1.3V.Input current typically 10pA at 25degC.", 16 OUT C (out) "Comparator C Output.output can source up to 40mA and sink 5mA."
part D pins: 12 IN D- (in) "Inverting Input of Comparator D. Input common mode range from V- toV+ -1.3V.input current typically 10pA at 25degC.", 13 IN D+ (in) "Noninverting Input of Comparator D. Input common mode range from V- to V+ -1.3V.Input current typically 10pA at 25degC.", 15 OUT D (out) "Comparator D Output.Output can source up to 40mA and sink 5mA."
part E pins: 8 REF (out) "Reference Output. With respect to V-. Can source up to 200uA and sink 15uA at 25degC.Drive 0.01uF bypass capacitor without oscillation.", 14 GND (power) "LTC1443 Ground. Connect to V- for single supply operation."

## LTC1444CDHD
designator U?
Ultralow Power Comparator with Reference, 4 Channels, 2 to 11 V, 0 to +70 degC, 16-pin Plastic DFN (DHD16); Generic Part Number: LTC1444; Manufacturer: Linear Technology; PartNumber: LTC1444CDHD; Channels (#): 4; Supply Current (uA) Guaranteed: 8.5; Supply Current (uA) Typical: 5.5; Supply Voltage Range: 2 to 11 V; Vos (mV) Typical: 3; Vs Max (V): 11; DatasheetVersion: Rev E; PackageReference: DHD16; PackageDescription: 16-Pin Plastic DFN, Body 5 × 4 mm, Pitch 0.5 mm; Features: Reference, Comparator; Prop Delay (us): 4; RoHS: N; Vs Min (V): 11; Mounting Technology: Surface Mount; Code_JEDEC: MO-229; ComponentLink1Description: Manufacturer URL; ComponentLink1URL: http://www.linear.com/; ComponentLink2Description: Datasheet; ComponentLink2URL: http://cds.linear.com/docs/en/datasheet/144345fe.pdf; ComponentLink3Description: Package Specification; ComponentLink3URL: http://cds.linear.com/docs/en/packaging/DFN_16_05-08-1707.pdf
footprint LT-DHD16_V (SON, 16-Leads, Body 5x4mm, Pitch 0.5mm, Thermal Pad 4.34x2.44mm)
part A pins: 2 OUT A (oc) "Comparator A Output. (Open-drain output for LTC1444). Output can source up to 40mA (LTC1443,LTC1445) and sink 5mA.", 4 IN A- (in) "Inverting Input of Comparator A. Input common mode range from V- to V+ - 1.3V. Input current typically 10pA at 25degreesC", 5 IN A+ (in) "Noninverting Input of Comparator A. Input common mode range from V- to V+ - 1.3V. Input current typically 10pA at 25degreesC"
part B pins: 1 OUT B (oc) "Comparator B Output. (Open-drain output for LTC1444). Output can source up to 40mA (LTC1443,LTC1445) and sink 5mA.", 6 IN B- (in) "Inverting Input of Comparator B. Input common mode range from V- to V+ - 1.3V. Input current typically 10pA at 25degreesC.", 7 IN B+ (in) "Noninverting Input of Comparator B. Input common mode range from V- to V+ - 1.3V. Input current typically 10pA at 25degreesC."
part C pins: 10 IN C- (in) "Inverting Input of Comparator C. Input common mode range from V- to V+ - 1.3V. Input current typically 10pA at 25degreesC.", 11 IN C+ (in) "Noninverting Input of Comparator C. Input common mode range from V- to V+ - 1.3V. Input current typically 10pA at 25degreesC.", 16 OUT C (oc) "Comparator C Output. (Open-drain output for LTC1444). Output can source up to 40mA (LTC1443,LTC1445) and sink 5mA."
part D pins: 12 IN D- (in) "Inverting Input of Comparator D. Input common mode range from V- to V+ - 1.3V. Input current typically 10pA at 25degreesC.", 13 IN D+ (in) "Noninverting Input of Comparator D. Input common mode range from V- to V+ - 1.3V. Input current typically 10pA at 25degreesC.", 15 OUT D (oc) "Comparator D Output. (Open-drain output for LTC1444). Output can source up to 40mA (LTC1443,LTC1445) and sink 5mA."
part E pins: 3 V+ (power) "Positive Supply", 8 REF (out) "Reference Output. With respect to V-. Can source up to 200uA and sink 15uA at 25degreesC. Drive 0.01uF bypass capacitor without oscillation.", 9 V- (power) "Negative Supply.", 14 HYST "Hysteresis Input. Connect to REF if not used. Input voltage range is from VREF to VREF - 50mV.", 17 EP (power) "This pin is internally connected to V-. Connection is optional, but will improve thermal dissipation."

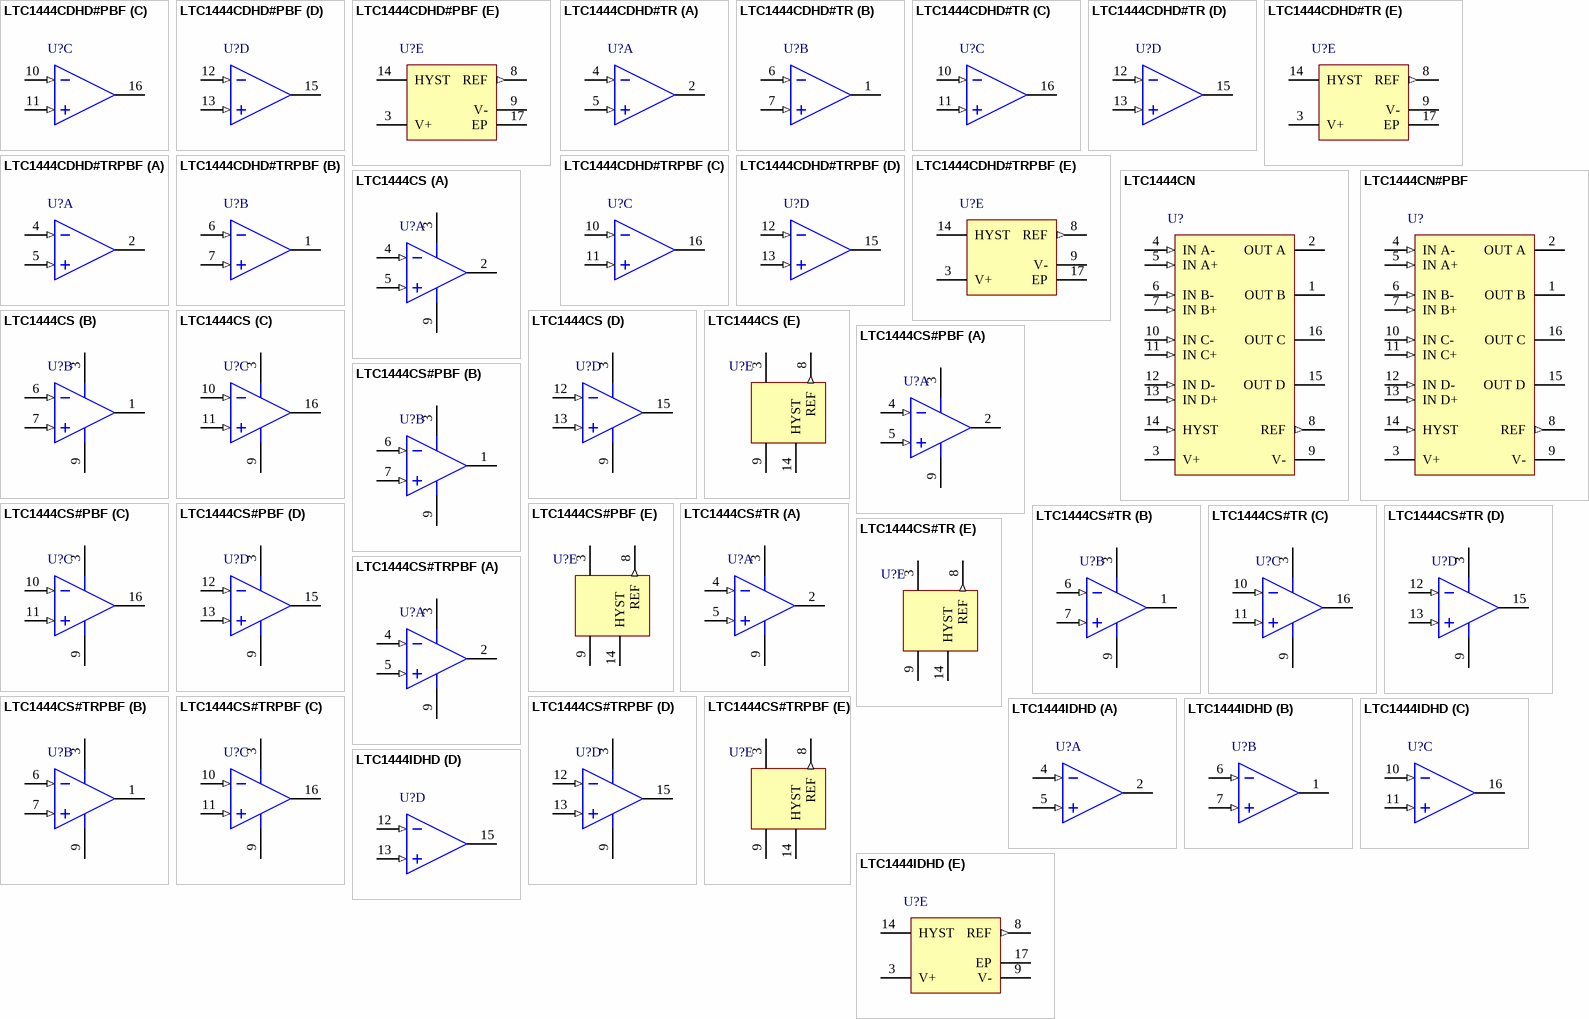
[diagram p16: symbols LTC1444CDHD#PBF to LTC1444IDHD]

## LTC1444CDHD#PBF
designator U?
Ultralow Power Comparator with Reference, 4 Channels, 2 to 11 V, 0 to +70 degC, 16-pin Plastic DFN (DHD16); Generic Part Number: LTC1444; Manufacturer: Linear Technology; PartNumber: LTC1444CDHD#PBF; Channels (#): 4; Supply Current (uA) Guaranteed: 8.5; Supply Current (uA) Typical: 5.5; Supply Voltage Range: 2 to 11 V; Vos (mV) Typical: 3; Vs Max (V): 11; DatasheetVersion: Rev E; PackageReference: DHD16; PackageDescription: 16-Pin Plastic DFN, Body 5 × 4 mm, Pitch 0.5 mm; Supplier 1: Digi-Key; Supplier Part Number 1: LTC1444CDHD#PBF-ND; Features: Reference, Comparator; Prop Delay (us): 4; RoHS: Y; Vs Min (V): 11; Mounting Technology: Surface Mount; Code_JEDEC: MO-229; ComponentLink1Description: Manufacturer URL; ComponentLink1URL: http://www.linear.com/; ComponentLink2Description: Datasheet; ComponentLink2URL: http://cds.linear.com/docs/en/datasheet/144345fe.pdf; ComponentLink3Description: Package Specification; ComponentLink3URL: http://cds.linear.com/docs/en/packaging/DFN_16_05-08-1707.pdf
footprint LT-DHD16_V (SON, 16-Leads, Body 5x4mm, Pitch 0.5mm, Thermal Pad 4.34x2.44mm)
part A pins: 2 OUT A (oc) "Comparator A Output. (Open-drain output for LTC1444). Output can source up to 40mA (LTC1443,LTC1445) and sink 5mA.", 4 IN A- (in) "Inverting Input of Comparator A. Input common mode range from V- to V+ - 1.3V. Input current typically 10pA at 25degreesC", 5 IN A+ (in) "Noninverting Input of Comparator A. Input common mode range from V- to V+ - 1.3V. Input current typically 10pA at 25degreesC"
part B pins: 1 OUT B (oc) "Comparator B Output. (Open-drain output for LTC1444). Output can source up to 40mA (LTC1443,LTC1445) and sink 5mA.", 6 IN B- (in) "Inverting Input of Comparator B. Input common mode range from V- to V+ - 1.3V. Input current typically 10pA at 25degreesC.", 7 IN B+ (in) "Noninverting Input of Comparator B. Input common mode range from V- to V+ - 1.3V. Input current typically 10pA at 25degreesC."
part C pins: 10 IN C- (in) "Inverting Input of Comparator C. Input common mode range from V- to V+ - 1.3V. Input current typically 10pA at 25degreesC.", 11 IN C+ (in) "Noninverting Input of Comparator C. Input common mode range from V- to V+ - 1.3V. Input current typically 10pA at 25degreesC.", 16 OUT C (oc) "Comparator C Output. (Open-drain output for LTC1444). Output can source up to 40mA (LTC1443,LTC1445) and sink 5mA."
part D pins: 12 IN D- (in) "Inverting Input of Comparator D. Input common mode range from V- to V+ - 1.3V. Input current typically 10pA at 25degreesC.", 13 IN D+ (in) "Noninverting Input of Comparator D. Input common mode range from V- to V+ - 1.3V. Input current typically 10pA at 25degreesC.", 15 OUT D (oc) "Comparator D Output. (Open-drain output for LTC1444). Output can source up to 40mA (LTC1443,LTC1445) and sink 5mA."
part E pins: 3 V+ (power) "Positive Supply", 8 REF (out) "Reference Output. With respect to V-. Can source up to 200uA and sink 15uA at 25degreesC. Drive 0.01uF bypass capacitor without oscillation.", 9 V- (power) "Negative Supply.", 14 HYST "Hysteresis Input. Connect to REF if not used. Input voltage range is from VREF to VREF - 50mV.", 17 EP (power) "This pin is internally connected to V-. Connection is optional, but will improve thermal dissipation."